# Altium schematic symbol library DRV8243-Q1.SchLib: 1 symbol
Pins are listed as number, name and electrical type; pins without a type are passive.

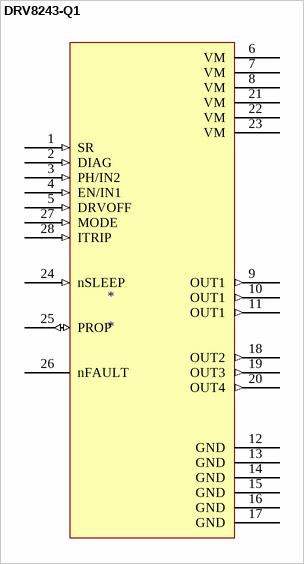
[diagram p0: symbol DRV8243-Q1]

## DRV8243-Q1
designator *
footprint IC_DRV8873SPWPRQ1 (Footprint not found)
pins: 1 SR (in), 2 DIAG (in), 3 PH/IN2 (in), 4 EN/IN1 (in), 5 DRVOFF (in), 6 VM (power), 7 VM (power), 8 VM (power), 9 OUT1 (out), 10 OUT1 (out), 11 OUT1 (out), 12 GND, 13 GND, 14 GND, 15 GND, 16 GND, 17 GND, 18 OUT2 (out), 19 OUT3 (out), 20 OUT4 (out), 21 VM (power), 22 VM (power), 23 VM (power), 24 nSLEEP (in), 25 PROP (io), 26 nFAULT, 27 MODE (in), 28 ITRIP (in)